# Altium footprint library SN74LVC2G04DRLR.PcbLib: 1 footprints
Each footprint in its own frame and in the unit in brackets; x right, y up, seen from the top. Pads: shape width x height; smd on the part's side, far side on the other; paste and mask are expansions set on the pad; w line width, h text height; cw(c..) or ccw(c..) is an arc to the next point about the centre after c.
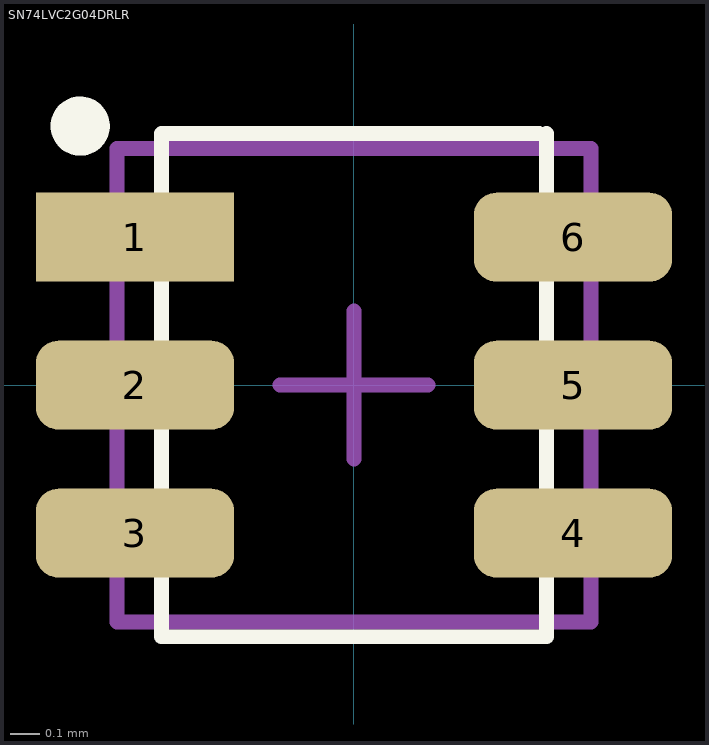
[diagram p0: the footprint, top view; thin cyan lines are the x and y axes]

## SN74LVC2G04DRLR [mm]
pads (6):
  rect 0.67x0.3 smd mask+0: 1(-0.74,0.5)
  rrect50% 0.67x0.3 smd mask+0: 2(-0.74,0) 3(-0.74,-0.5) 4(0.74,-0.5) 5(0.74,0) 6(0.74,0.5)
Top Overlay:
  circle w0.1: c-0.925,0.875 r0.05
  lines w0.05: 0.625,0.85 -0.65,0.85 -0.65,-0.85 0.65,-0.85 0.65,0.85
Mechanical 13:
  lines w0.051: -0.8,-0.8 -0.8,0.8 0.8,0.8 0.8,-0.8 -0.8,-0.8
Mechanical 15:
  lines w0.05: 0.25,0 0,0 ; 0,0 0,0.25 0,0 ; 0,0 -0.25,0 0,0 ; 0,0 0,-0.25 0,0
3D body "SN74LVC2G04DRLR.STEP": height 0.61, standoff 0.01, extent -0.8,-0.8 0.8,0.8